# Altium footprint library stm32.PcbLib: 18 footprints (part 2 of 2)
Each footprint in its own frame and in the unit in brackets; x right, y up, seen from the top. Pads: shape width x height; smd on the part's side, far side on the other; paste and mask are expansions set on the pad; w line width, h text height; cw(c..) or ccw(c..) is an arc to the next point about the centre after c.
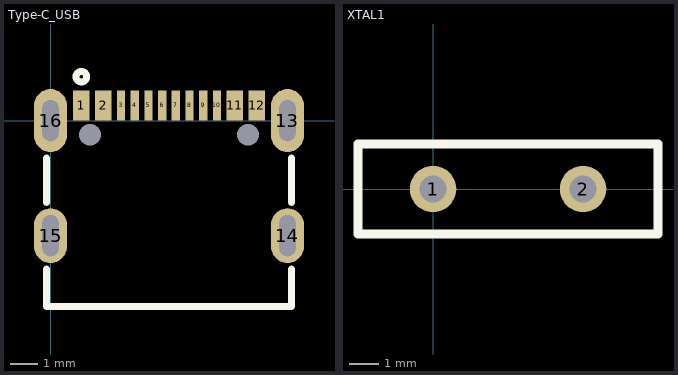
[diagram p1: the footprints below, top view; thin cyan lines are the x and y axes]

## Type-C_USB [mm]
pads (18):
  rect 0.6x1.1 smd mask+0.05: 1(1.125,0.55) 2(1.925,0.55) 11(6.725,0.55) 12(7.525,0.55)
  rect 0.3x1.1 smd mask+0.05: 3(2.575,0.55) 4(3.075,0.55) 5(3.575,0.55) 6(4.075,0.55) 7(4.575,0.55) 8(5.075,0.55) 9(5.575,0.55) 10(6.075,0.55)
  oval 1.2x2.3 hole 0.6 slot 1.5 at 90 deg mask+0.05: 13(8.65,0) 16(0,0)
  oval 1.2x2 hole 0.6 slot 1.5 at 90 deg mask+0.05: 14(8.65,-4.2) 15(0,-4.2)
  round 0 hole 0.8 unplated: MH1(1.435,-0.52) MH1(7.215,-0.52)
Top Overlay:
  circle w0.254: c1.125,1.6 r0.193
  lines w0.254: -0.145,-5.425 -0.145,-6.792 8.795,-6.792 8.795,-5.425 ; -0.145,-2.985 -0.145,-1.365 ; 8.795,-2.985 8.795,-1.365
3D body: height 0.25, standoff 0, extent -0.018,0.563 -0.018,0.563
3D body: height 0.25, standoff 0, extent -0.203,-6.782 8.814,0.813

## XTAL1 [mil]
height 170.08
pads (2):
  round 62 hole 35.43: 1(0,0) 2(200,0)
Top Overlay:
  lines w12: -100,-60 300,-60 300,60 -100,60 -100,-60